# EAGLE library part PMOS2SM8 (library zetex)
Dual MOS FET
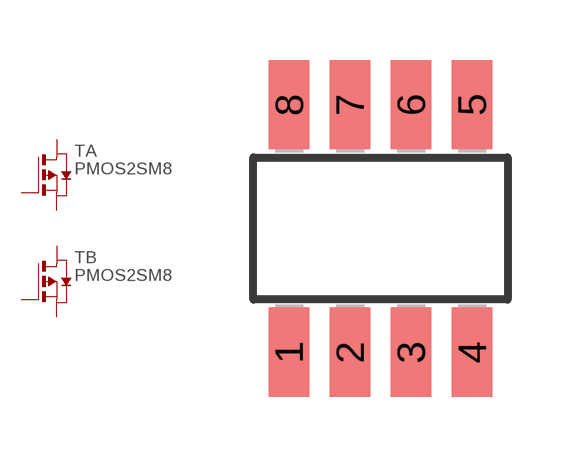
[diagram p7: symbol with the pads of SM8; footprint SM8]

Designator prefix T; gates A=P_MOSFET B=P_MOSFET

## PMOS2SM8 (MPN: STS1NK60Z; OC_FARNELL: 1412107; OC_NEWARK: 57P2212)  [SM8]
1  B:S  pas
2  B:G  pas
3  A:S  pas
4  A:G  pas
5  A:D  pas
6  A:D  pas
7  B:D  pas
8  B:D  pas

## Footprint SM8 (pad centres in mm)
SM8 Package
smd 1.016 x 2.235: 1 -2.286,-3.099; 2 -0.762,-3.099; 3 0.762,-3.099; 4 2.286,-3.099; 5 2.286,3.099; 6 0.762,3.099; 7 -0.762,3.099; 8 -2.286,3.099